# EAGLE library part PCA9632TK (library Radio Projekt)
Power LED driver
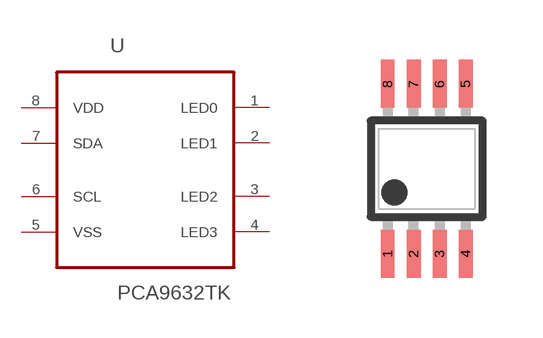
[diagram p5: symbol with the pads of TSSOP8; footprint TSSOP8]

Designator prefix U

## PCA9632TK  [TSSOP8]
1  LED0  out
2  LED1  out
3  LED2  out
4  LED3  out
5  VSS  pas
6  SCL  in
7  SDA
8  VDD  pwr

## Footprint TSSOP8 (pad centres in mm)
Thin Shrink Small Outline Plastic 8 body width 3mm, SOT505-1
smd 0.35 x 1.2: 1 -0.975,-2.125; 2 -0.325,-2.125; 3 0.325,-2.125; 4 0.975,-2.125; 5 0.975,2.125; 6 0.325,2.125; 7 -0.325,2.125; 8 -0.975,2.125